# Altium footprint library SL_Other.PcbLib: 72 footprints (part 5 of 5)
Each footprint in its own frame and in the unit in brackets; x right, y up, seen from the top. Pads: shape width x height; smd on the part's side, far side on the other; paste and mask are expansions set on the pad; w line width, h text height; cw(c..) or ccw(c..) is an arc to the next point about the centre after c.
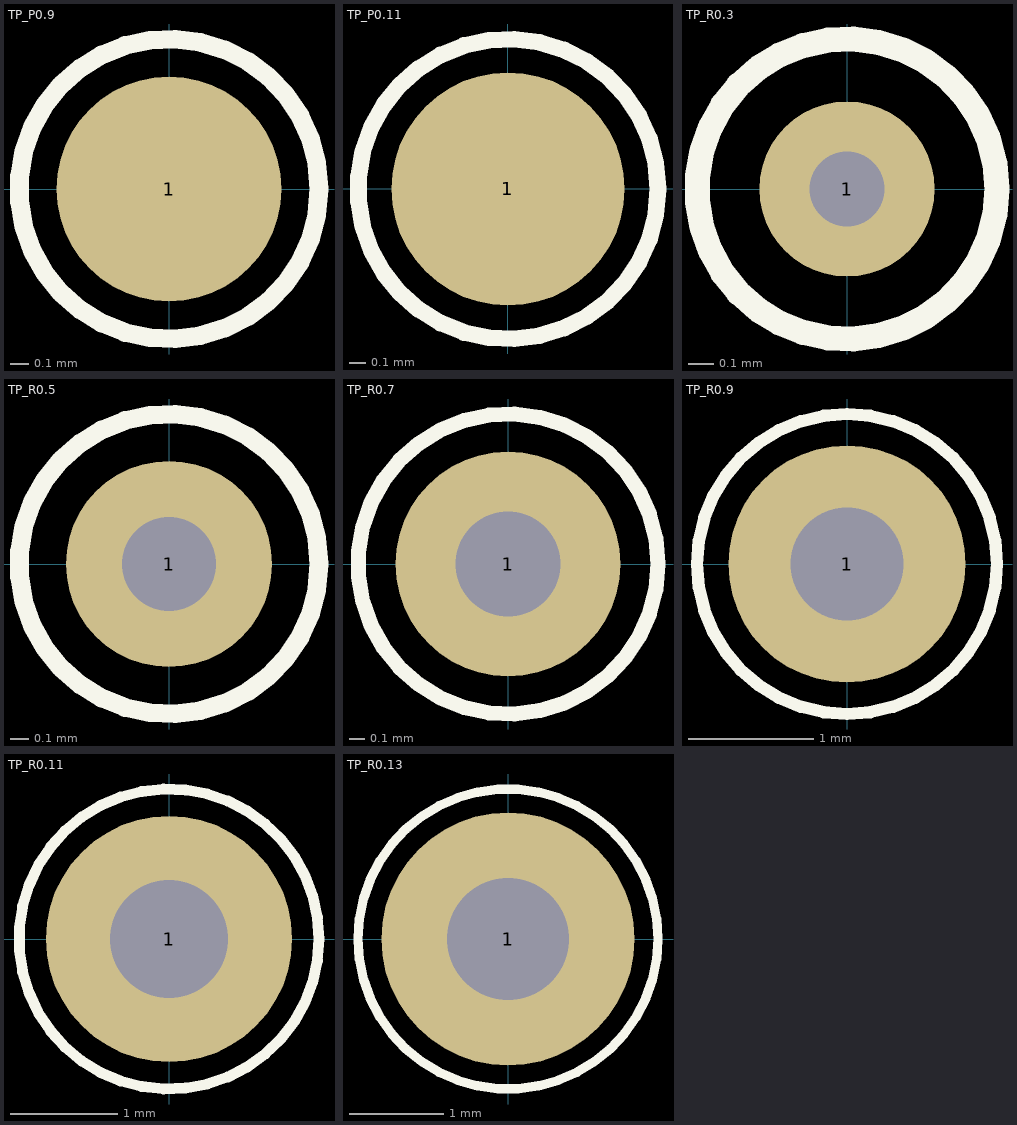
[diagram p4: the footprints below, top view; thin cyan lines are the x and y axes]

## TP_P0.9 [mm]
pads (1):
  round 1.2 / inner round 1.2 / far side round 0 all layers, no hole: 1(0,0)
Top Overlay:
  circle w0.1: c0,0 r0.8

## TP_P0.11 [mm]
pads (1):
  round 1.4 / inner round 1.4 / far side round 0 all layers, no hole: 1(0,0)
Top Overlay:
  circle w0.1: c0,0 r0.9

## TP_R0.3 [mm]
pads (1):
  round 0.7 hole 0.3 mask+0.102: 1(0,0)
Top Overlay:
  circle w0.1: c0,0 r0.6

## TP_R0.5 [mm]
pads (1):
  round 1.1 hole 0.5 mask+0.102: 1(0,0)
Top Overlay:
  circle w0.1: c0,0 r0.8

## TP_R0.7 [mm]
pads (1):
  round 1.5 hole 0.7 mask+0.102: 1(0,0)
Top Overlay:
  circle w0.1: c0,0 r1

## TP_R0.9 [mm]
pads (1):
  round 1.9 hole 0.9 mask+0.102: 1(0,0)
Top Overlay:
  circle w0.1: c0,0 r1.2

## TP_R0.11 [mm]
pads (1):
  round 2.3 hole 1.1 mask+0.102: 1(0,0)
Top Overlay:
  circle w0.1: c0,0 r1.4

## TP_R0.13 [mm]
pads (1):
  round 2.7 hole 1.3 mask+0.102: 1(0,0)
Top Overlay:
  circle w0.1: c0,0 r1.6